# EAGLE library part SPIFLASH_8PIN (library Ooo-IC-Memory)
SOIC8 SPI Flash Be careful with the size since SOIC8 flash comes in several 'widths' SOIC8 150 mil M25P16 - 16Mbit (2Mbit x 8) Serial Flash (75MHz SPI Bus), Supply: 2.7-3.6V Digikey: SOIC8 - M25P16-VMN6P-ND SOIC8 208 mil W25Q16BVSSIG - 16Mbit (2Mbit x 8) Serial Flash (104MHz SPI Bus), Supply: 2.7-3.6V Digikey: SOIC8 - W25Q16BVSSIG-ND
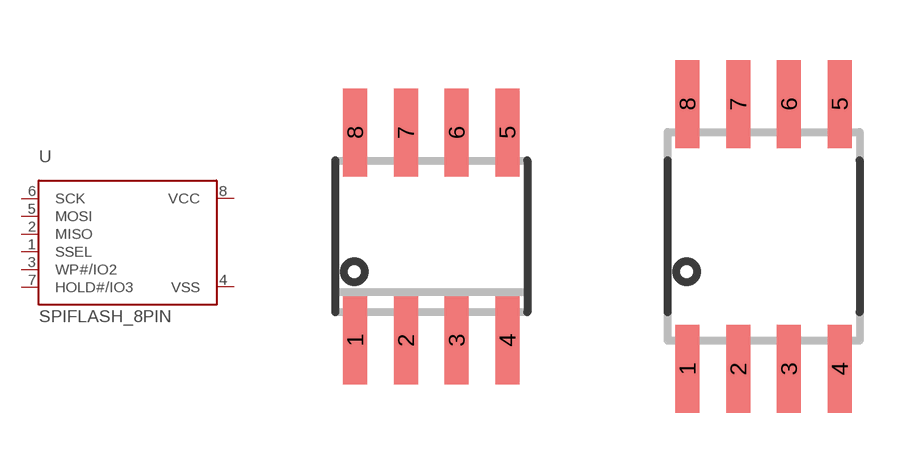
[diagram p0: symbol with the pads of SOIC8_150MIL; footprints SOIC8_150MIL, SOIC8_208MIL]

Designator prefix U

## SPIFLASH_8PIN  [SOIC8_150MIL]
1  SSEL
2  MISO
3  WP#/IO2
4  VSS
5  MOSI
6  SCK
7  HOLD#/IO3
8  VCC

## SPIFLASH_8PIN208MIL  [SOIC8_208MIL]
Pads as for SOIC8_150MIL

## SPIFLASH_8PINUX  [USON8]
Pads as for SOIC8_150MIL

## Footprint SOIC8_150MIL (pad centres in mm)
Small Outline IC - 150mil Wide
smd 0.6 x 2.2: 1 -1.905,-2.6; 2 -0.635,-2.6; 3 0.635,-2.6; 4 1.905,-2.6; 5 1.905,2.6; 6 0.635,2.6; 7 -0.635,2.6; 8 -1.905,2.6

## Footprint SOIC8_208MIL (pad centres in mm)
Small Outline IC - 208mil Wide
smd 0.6 x 2.2: 1 -1.905,-3.315; 2 -0.635,-3.315; 3 0.635,-3.315; 4 1.905,-3.315; 5 1.905,3.315; 6 0.635,3.315; 7 -0.635,3.315; 8 -1.905,3.315

## Footprint USON8 (pad centres in mm)
smd 0.5 x 0.275: 1 -1.2,0.75; 2 -1.2,0.25; 3 -1.2,-0.25; 4 -1.2,-0.75; 5 1.2,-0.75; 6 1.2,-0.25; 7 1.2,0.25; 8 1.2,0.75